# Altium footprint library SnapEDApcb.PcbLib: 1 footprints
Each footprint in its own frame and in the unit in brackets; x right, y up, seen from the top. Pads: shape width x height; smd on the part's side, far side on the other; paste and mask are expansions set on the pad; w line width, h text height; cw(c..) or ccw(c..) is an arc to the next point about the centre after c.
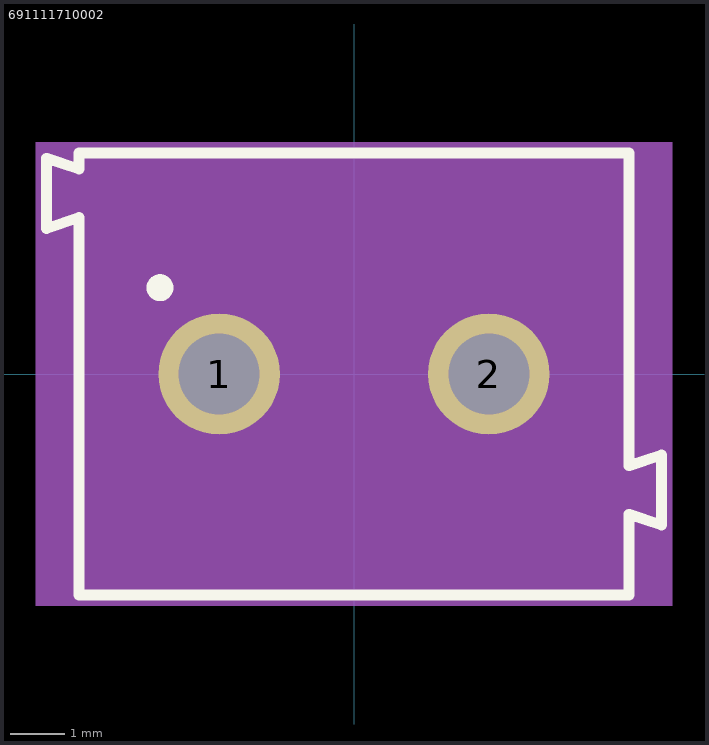
[diagram p0: the footprint, top view; thin cyan lines are the x and y axes]

## 691111710002 [mm]
pads (2):
  round 2.25 hole 1.5: 1(-2.5,0) 2(2.5,0)
Top Overlay:
  circle w0.3: c-3.6,1.6 r0.1
  lines w0.2: -5.7,2.7 -5.1,2.9 -5.1,-4.1 5.1,-4.1 5.1,-2.6 5.7,-2.8 5.7,-1.5 5.1,-1.7 5.1,4.1 -5.1,4.1 -5.1,3.8 -5.7,4 -5.7,2.7
Mechanical 13:
  lines w0.1: -5.6,2.865 -5.6,3.865 -5,3.64 -5,4 5,4 5,-1.85 5.6,-1.625 5.6,-2.625 5,-2.4 5,-4 -5,-4 -5,3.09 -5.6,2.865
Mechanical 15:
  region: 5.9,-4.3 -5.9,-4.3 -5.9,4.3 5.9,4.3